# Altium integrated library PCB_Project2.IntLib: 24 symbols
Pins are listed as number, name and electrical type; pins without a type are passive.

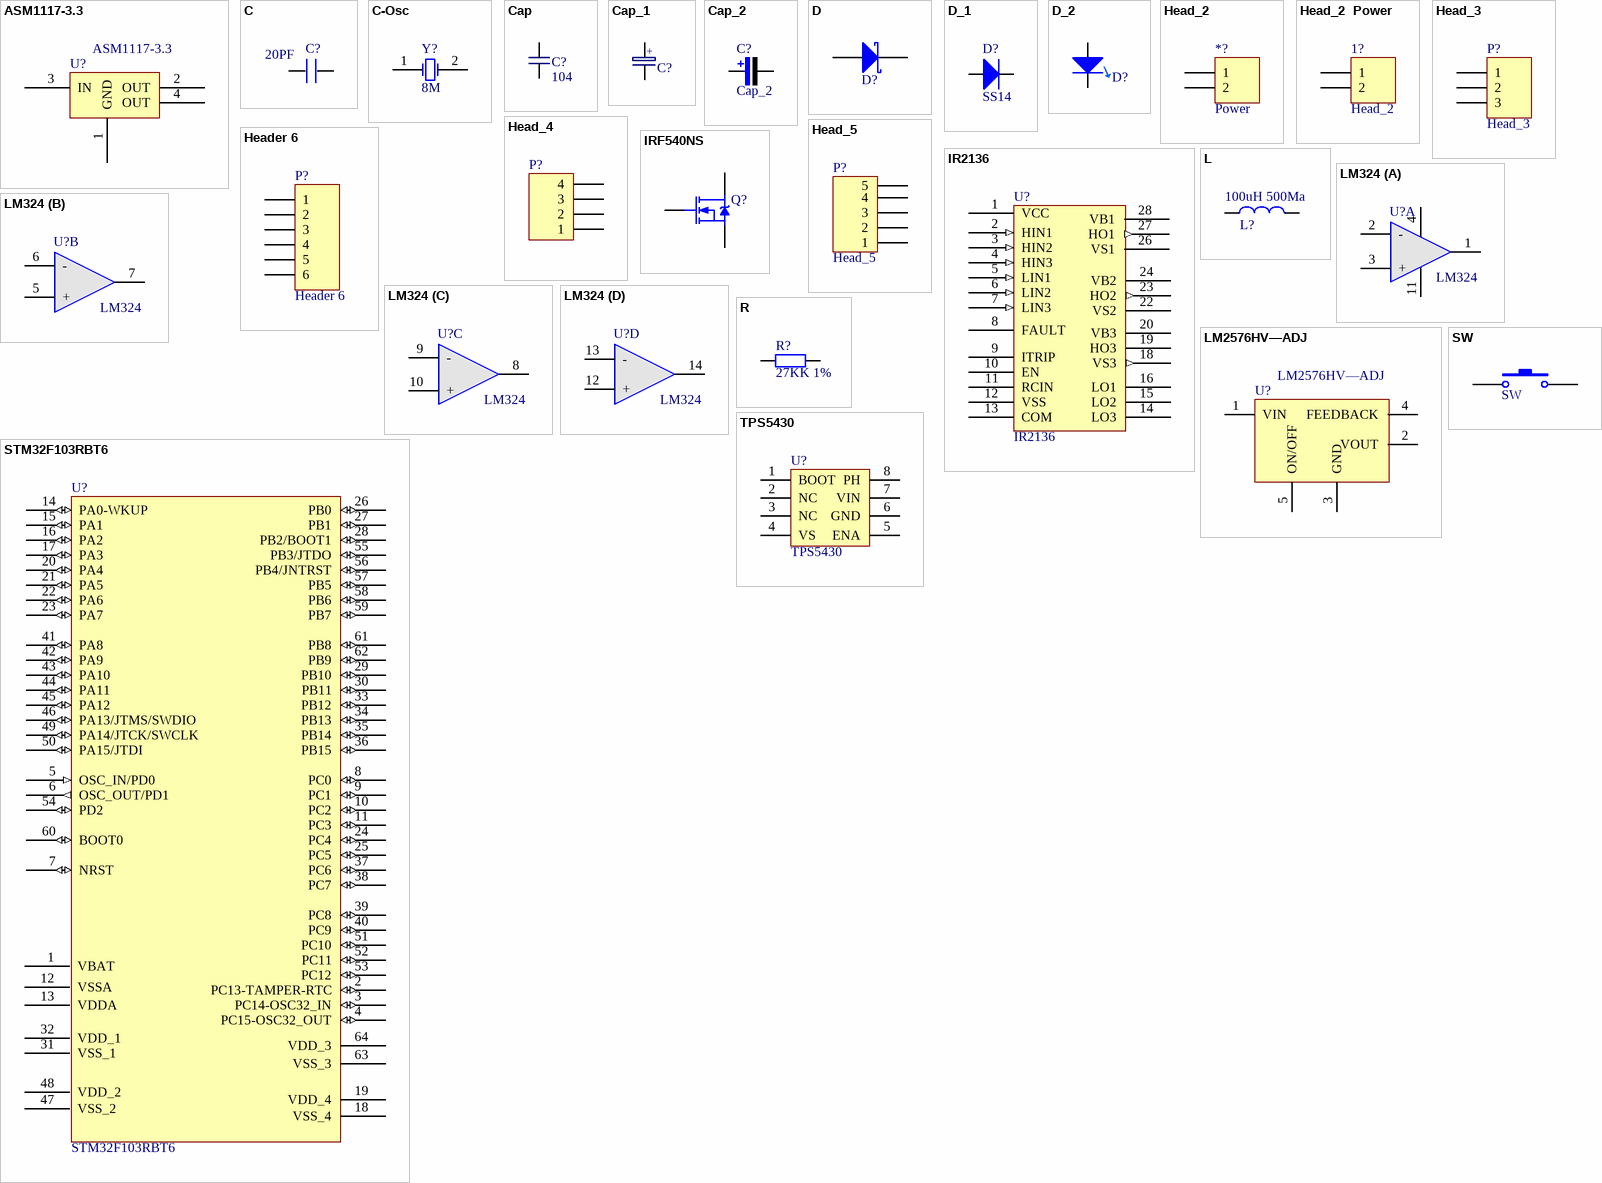
[diagram p0: symbols ASM1117-3.3 to TPS5430]

## ASM1117-3.3
designator U?
3.3 稳压
footprint AMS1117
pins: 1 GND, 2 OUT, 3 IN, 4 OUT

## C
designator C?, comment 20PF
footprint 0603- C (贴片带丝印)
pins: 1, 2

## C-Osc
designator Y?, comment 8M
Crystal Oscillator; Published: 8-Jun-2000; LatestRevisionDate: 17-Jul-2002; LatestRevisionNote: Re-released for DXP Platform.; PackageReference: R38; Publisher: Altium Limited; PackageDescription: Crystal, Thru-Hole; 2 Leads; Body 3.1 x 8.2 mm (Dia.xH)
simulation model XTAL (Spice Subcircuit)
footprint OSC-5032 (Molded Capacitor, 2-Leads, Body 3.20x1.60mm, IPC Medium Density)
pins: 1 OSC1, 2 OSC2

## Cap
designator C?, comment 104
footprint 0805C
pins: 1, 2

## Cap_1
designator C?, comment 330uF 63V  (value not drawn)
footprint Cap  电解  10mm (Connector; Header; 3 Position)
pins: 1, 2
text: +

## Cap_2
designator C?
钽电容
footprint 6032C  TA
pins: 1, 2

## D
designator D?  (value not drawn)
footprint D RS1M
pins: A, K

## D_1
designator D?, comment SS14
二极管
footprint D RS1M
footprint D RS1M
pins: A, K

## D_2
designator D?  (value not drawn)
发光二极管
footprint 0805D
pins: A, K

## Head_2
designator *?, comment Power
footprint 普通二口接线柱
pins: 1, 2

## Head_2  Power
designator 1?, comment Head_2
footprint HDR1X2
pins: 1, 2

## Head_3
designator P?
footprint HDR1X3 (Connector; Header; 3 Position)
pins: 1, 2, 3

## Head_4
designator P?
footprint HDR1X4
pins: 1, 2, 3, 4

## Head_5
designator P?
footprint HDR1X5
footprint 普通五口接线柱
pins: 1, 2, 3, 4, 5

## Header 6
designator P?
接插件; LatestRevisionDate: 17-Jul-2002; LatestRevisionNote: Re-released for DXP Platform.; Publisher: Altium Limited
footprint HDR1X6- duplicate
pins: 1, 2, 3, 4, 5, 6

## IR2136
designator U?
footprint IR2136S SOIC-28 (SOIC, 28-Leads, Body 17.90x7.50mm, Pitch 1.27mm, IPC Medium Density)
pins: 1 VCC, 2 HIN1 (in), 3 HIN2 (in), 4 HIN3 (in), 5 LIN1 (in), 6 LIN2 (in), 7 LIN3 (in), 8 FAULT, 9 ITRIP, 10 EN, 11 RCIN, 12 VSS, 13 COM, 14 LO3, 15 LO2, 16 LO1, 18 VS3 (out), 19 HO3, 20 VB3, 22 VS2, 23 HO2 (out), 24 VB2, 26 VS1, 27 HO1 (out), 28 VB1

## IRF540NS
designator Q?  (value not drawn)
MOS
footprint TO-220AB  MOS (TO, Thru-Hole, Vertical, Heatsink Mounted; 3 In-Line Leads; Pitch 2.54 mm)
pins: D, G, S

## L
designator L?, comment 100uH 500Ma
电感
footprint L  电感  6mm (Connector; Header; 3 Position)
pins: 1, 2

## LM324
designator U?
4运放SOP8芯片
footprint SOP-14N (SOP, 14-Leads,)
part A pins: 1 OUT, 2 -, 3 +, 4 V+, 11 V-
part B pins: 5 +, 6 -, 7 OUT
part C pins: 8 OUT, 9 -, 10 +
part D pins: 12 +, 13 -, 14 OUT

## LM2576HV—ADJ
designator U?
footprint LM
pins: 1 VIN, 2 VOUT, 3 GND, 4 FEEDBACK, 5 ON/OFF

## R
designator R?, comment 27KK 1%
footprint 0805R
pins: 1, 2

## STM32F103RBT6
designator U?
footprint LQFP64
pins: 1 VBAT (power), 2 PC13-TAMPER-RTC (io), 3 PC14-OSC32_IN (io), 4 PC15-OSC32_OUT (io), 5 OSC_IN/PD0 (in), 6 OSC_OUT/PD1 (out), 7 NRST (io), 8 PC0 (io), 9 PC1 (io), 10 PC2 (io), 11 PC3 (io), 12 VSSA (power), 13 VDDA (power), 14 PA0-WKUP (io), 15 PA1 (io), 16 PA2 (io), 17 PA3 (io), 18 VSS_4 (power), 19 VDD_4 (power), 20 PA4 (io), 21 PA5 (io), 22 PA6 (io), 23 PA7 (io), 24 PC4 (io), 25 PC5 (io), 26 PB0 (io), 27 PB1 (io), 28 PB2/BOOT1 (io), 29 PB10 (io), 30 PB11 (io), 31 VSS_1 (power), 32 VDD_1 (power), 33 PB12 (io), 34 PB13 (io), 35 PB14 (io), 36 PB15 (io), 37 PC6 (io), 38 PC7 (io), 39 PC8 (io), 40 PC9 (io), 41 PA8 (io), 42 PA9 (io), 43 PA10 (io), 44 PA11 (io), 45 PA12 (io), 46 PA13/JTMS/SWDIO (io), 47 VSS_2 (power), 48 VDD_2 (power), 49 PA14/JTCK/SWCLK (io), 50 PA15/JTDI (io), 51 PC10 (io), 52 PC11 (io), 53 PC12 (io), 54 PD2 (io), 55 PB3/JTDO (io), 56 PB4/JNTRST (io), 57 PB5 (io), 58 PB6 (io), 59 PB7 (io), 60 BOOT0 (io), 61 PB8 (io), 62 PB9 (io), 63 VSS_3 (power), 64 VDD_3 (power)

## SW
designator *?
开关
footprint KEY
pins: 1, 2

## TPS5430
designator U?
footprint SOIC-8piN (SOIC, 8-Leads, Body 4.90x3.90mm, Pitch 1.27mm, IPC Medium Density)
pins: 1 BOOT, 2 NC, 3 NC, 4 VS, 5 ENA, 6 GND, 7 VIN, 8 PH